# Altium schematic symbol library TMP100.SchLib: 1 symbol
Pins are listed as number, name and electrical type; pins without a type are passive.

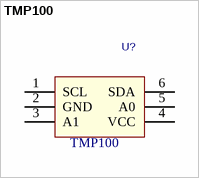
[diagram p0: symbol TMP100]

## TMP100
designator U?
Value: TMP100
footprint SOT23-6
pins: 1 SCL, 2 GND (power), 3 A1 (power), 4 VCC (power), 5 A0, 6 SDA